# Altium schematic symbol library DX07S016JA1R1500.SchLib: 1 symbol
Pins are listed as number, name and electrical type; pins without a type are passive.

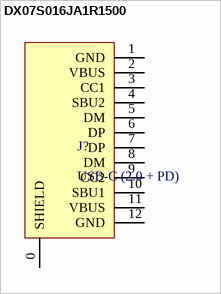
[diagram p0: symbol DX07S016JA1R1500]

## DX07S016JA1R1500
designator J?, comment USB-C (2.0 + PD)
pins: 0 SHIELD, 1 GND, 2 VBUS, 3 CC1, 4 SBU2, 5 DM, 6 DP, 7 DP, 8 DM, 9 CC2, 10 SBU1, 11 VBUS, 12 GND